# Altium footprint library SOT-6.PcbLib: 1 footprints
Each footprint in its own frame and in the unit in brackets; x right, y up, seen from the top. Pads: shape width x height; smd on the part's side, far side on the other; paste and mask are expansions set on the pad; w line width, h text height; cw(c..) or ccw(c..) is an arc to the next point about the centre after c.
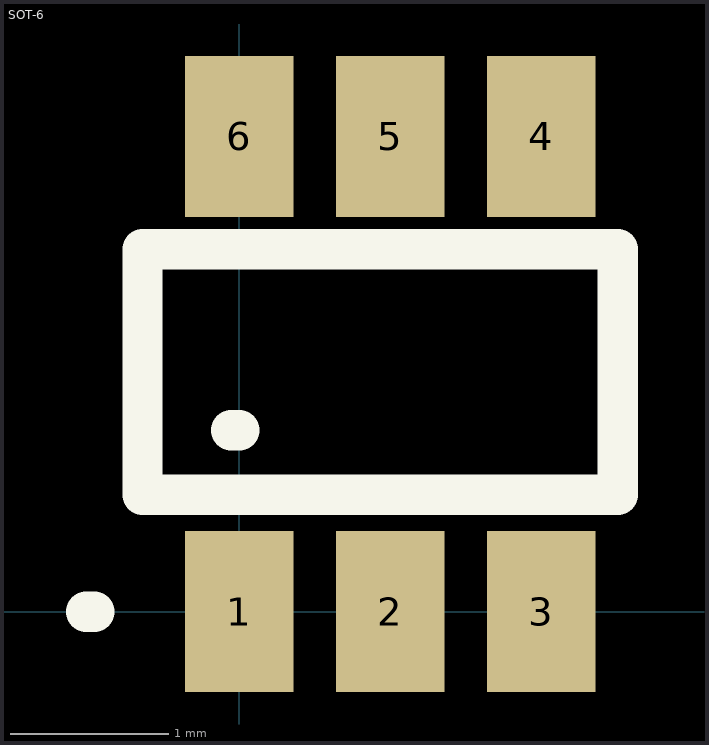
[diagram p0: the footprint, top view; thin cyan lines are the x and y axes]

## SOT-6 [mil]
pads (6):
  rect 27x40 smd: 1(0,0) 2(37.5,0) 3(75,0) 4(75,118) 5(37.5,118) 6(0,118)
TopOverlay:
  lines w10: -38,0 -36,0 ; -2,45 0,45 ; -24,29 94,29 94,90 -24,90 -24,29
Mechanical4:
  text ".047" at 0,0 h1